# EAGLE library part ELM329L?(V2.1) (library Elm Electronics)
ELM329L v2.1 - low voltage version of the ELM329 based on Microchip Technology Inc.'s PIC18F2480 (www.microchip.com) This integrated circuit supports all of the ELM329 v2.1 functions, but operates with lower voltage supplies (from 2.0V to 5.5V). More info on Elm Electronics Inc. <www.elmelectronics.com>.
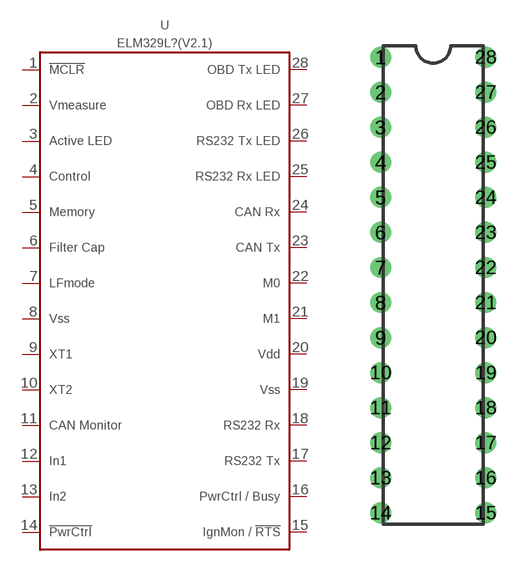
[diagram p9: symbol with the pads of SPDIP(28); footprint SPDIP(28)]

Designator prefix U

## ELM329LP(V2.1)  [SPDIP(28)]
1  !MCLR
2  VMEASURE
3  ACTIVE_LED
4  CONTROL
5  MEMORY
6  FILTER_CAP
7  LFMODE
8  VSS
9  XT1
10  XT2
11  CAN_MONITOR
12  IN1
13  IN2
14  !PWRCTRL
15  IGNMON/!RTS
16  PWRCTRL/BUSY
17  RS232_TX
18  RS232_RX
19  VSS
20  VDD
21  M1
22  M0
23  CAN_TX
24  CAN_RX
25  RS232_RX_LED
26  RS232_TX_LED
27  OBD_RX_LED
28  OBD_TX_LED

## Footprint SPDIP(28) (pad centres in mm)
28-Lead Skinny Plastic Dual In-Line (SP) - 300 mil Body [SPDIP]
drill 1 pad 1.5: 1 -3.81,16.51; 2 -3.81,13.97; 3 -3.81,11.43; 4 -3.81,8.89; 5 -3.81,6.35; 6 -3.81,3.81; 7 -3.81,1.27; 8 -3.81,-1.27; 9 -3.81,-3.81; 10 -3.81,-6.35; 11 -3.81,-8.89; 12 -3.81,-11.43; 13 -3.81,-13.97; 14 -3.81,-16.51; 15 3.81,-16.51; 16 3.81,-13.97; 17 3.81,-11.43; 18 3.81,-8.89; 19 3.81,-6.35; 20 3.81,-3.81; 21 3.81,-1.27; 22 3.81,1.27; 23 3.81,3.81; 24 3.81,6.35; 25 3.81,8.89; 26 3.81,11.43; 27 3.81,13.97; 28 3.81,16.51